# EAGLE library part SN74CB3Q3257DBQR (library SN74CB3Q3257DBQR)
4-Bit One-of-2 FET Multiplexer/Demultiplexer 2.5-V/3.3-V Low-Voltage, High-Bandwidth Bus Switch Source: Datasheet <http://www.ti.com/lit/gpn/sn74cb3q3257>
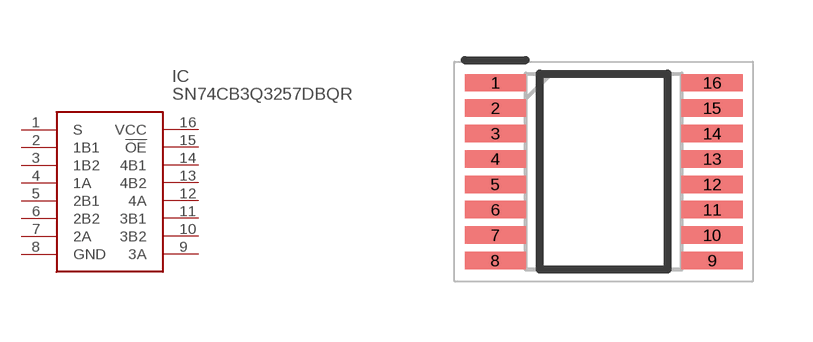
[diagram p0: symbol with the pads of SOP64P600X175-16N; footprint SOP64P600X175-16N]

Designator prefix IC

## SN74CB3Q3257DBQR (Arrow_Part_Number: SN74CB3Q3257DBQR; Arrow_Price-Stock: https://www.arrow.com/en/products/sn74cb3q3257dbqr/texas-instruments; Description: 4-Bit One-of-2 FET Multiplexer/Demultiplexer 2.5-V/3.3-V Low-Voltage, High-Bandwidth Bus Switch; Height: 1.75mm; Manufacturer_Name: Texas Instruments; Manufacturer_Part_Number: SN74CB3Q3257DBQR; Mouser_Part_Number: 595-SN74CB3Q3257DBQR; Mouser_Price-Stock: https://www.mouser.co.uk/ProductDetail/Texas-Instruments/SN74CB3Q3257DBQR?qs=mE33ZKBHyE7nUNkzi4gkbQ%3D%3D)  [SOP64P600X175-16N]
1  S
2  1B1
3  1B2
4  1A
5  2B1
6  2B2
7  2A
8  GND
9  3A
10  3B2
11  3B1
12  4A
13  4B2
14  4B1
15  !OE
16  VCC

## Footprint SOP64P600X175-16N (pad centres in mm)
SSOP
smd 1.528 x 0.435: 1 -2.711,2.222; 2 -2.711,1.588; 3 -2.711,0.952; 4 -2.711,0.318; 5 -2.711,-0.318; 6 -2.711,-0.952; 7 -2.711,-1.588; 8 -2.711,-2.222; 9 2.711,-2.222; 10 2.711,-1.588; 11 2.711,-0.952; 12 2.711,-0.318; 13 2.711,0.318; 14 2.711,0.952; 15 2.711,1.588; 16 2.711,2.222